# Altium schematic symbol library Processors.SchLib: 2 symbols
Pins are listed as number, name and electrical type; pins without a type are passive.

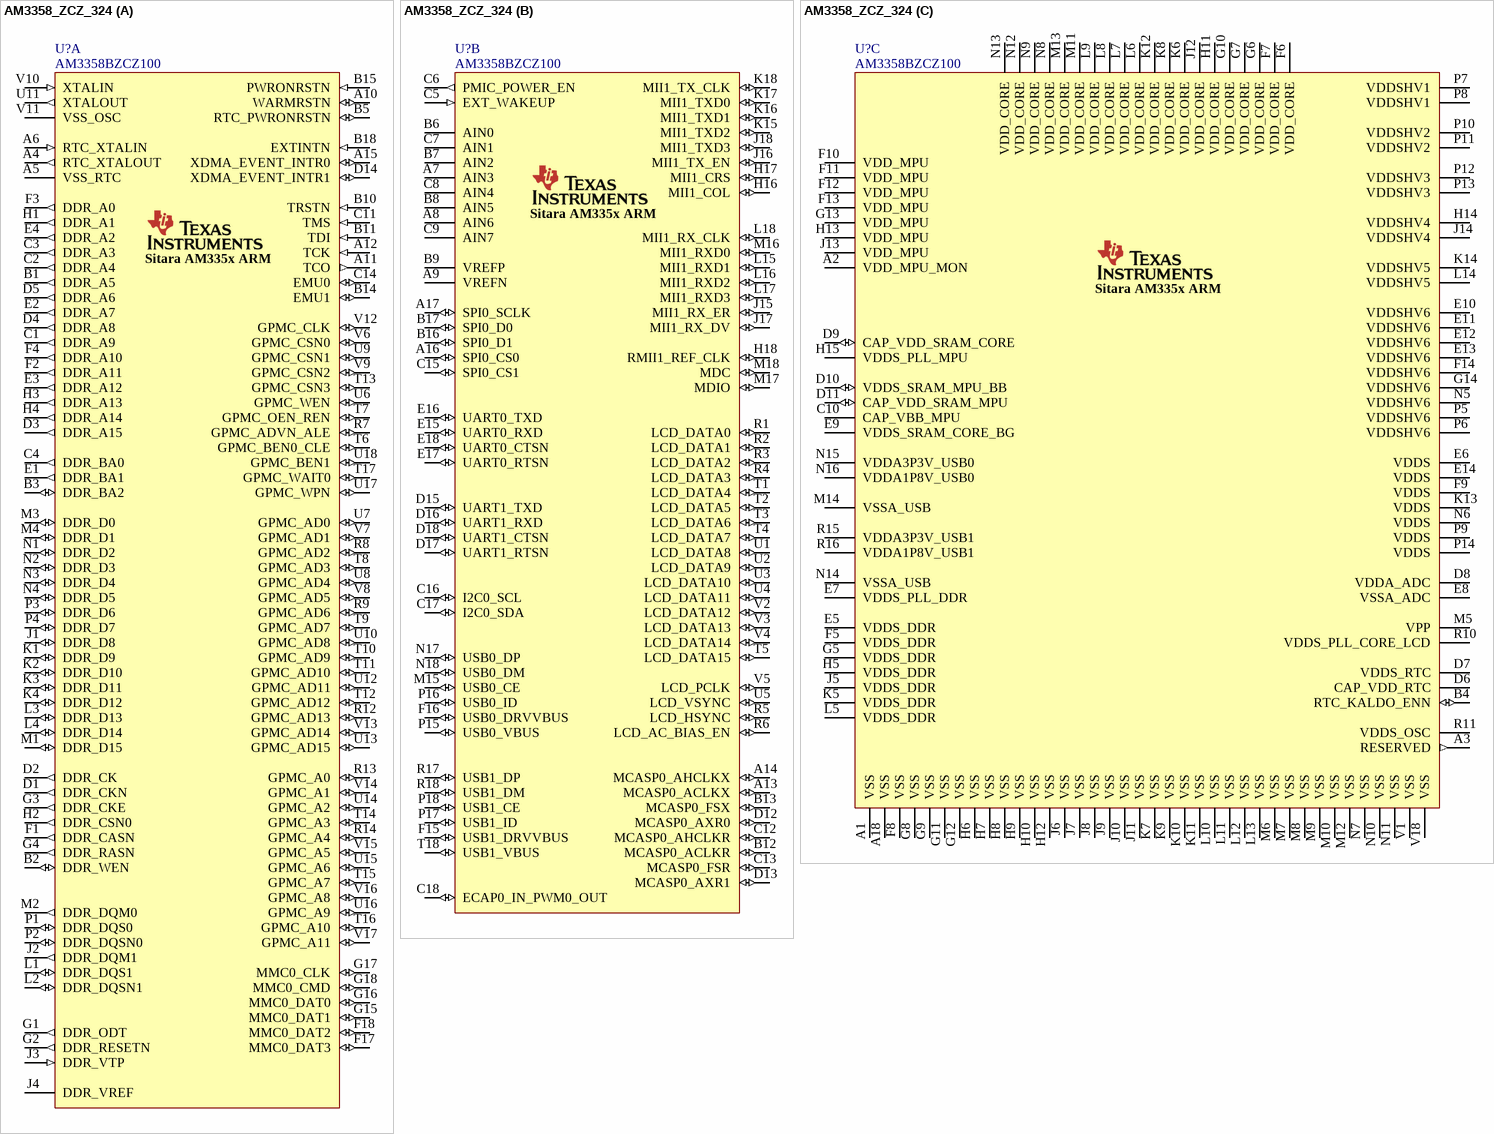
[diagram p0: symbol AM3358_ZCZ_324]

## AM3358_ZCZ_324
designator U?, comment AM3358BZCZ100
Sitara AM335x ARM Cortex-A8 1.0GHZ 324NFBGA Microprocessor; Manuf1: Texas Instruments; Manuf1Partnumber: am3358_zcz_324; Populated: Yes; Value: AM3358BZCZ100; Code_JEDEC: *; HelpURL: *; ROHS: *; LifeCycle: Checked; ClassName: *; Supplier 1: Digi-Key; Supplier Part Number 1: 296-35869-5-ND
footprint ZCZ324
part A pins: A4 RTC_XTALOUT (out), A5 VSS_RTC (power), A6 RTC_XTALIN (in), A10 WARMRSTN (io), A11 TCO (out), A12 TCK (in), A15 XDMA_EVENT_INTR0 (io), B1 DDR_A5 (out), B2 DDR_WEN (io), B3 DDR_BA2 (io), B5 RTC_PWRONRSTN (io), B10 TRSTN (in), B11 TDI (in), B14 EMU1 (io), B15 PWRONRSTN (in), B18 EXTINTN (in), C1 DDR_A9 (out), C2 DDR_A4 (out), C3 DDR_A3 (out), C4 DDR_BA0 (out), C11 TMS (in), C14 EMU0 (io), D1 DDR_CKN (out), D2 DDR_CK (out), D3 DDR_A15 (out), D4 DDR_A8 (out), D5 DDR_A6 (out), D14 XDMA_EVENT_INTR1 (io), E1 DDR_BA1 (out), E2 DDR_A7 (out), E3 DDR_A12 (out), E4 DDR_A2 (out), F1 DDR_CASN (out), F2 DDR_A11 (out), F3 DDR_A0 (out), F4 DDR_A10 (out), F17 MMC0_DAT3 (io), F18 MMC0_DAT2 (io), G1 DDR_ODT (out), G2 DDR_RESETN (out), G3 DDR_CKE (out), G4 DDR_RASN (out), G15 MMC0_DAT1 (io), G16 MMC0_DAT0 (io), G17 MMC0_CLK (io), G18 MMC0_CMD (io), H1 DDR_A1 (out), H2 DDR_CSN0 (out), H3 DDR_A13 (out), H4 DDR_A14 (out), J1 DDR_D8 (io), J2 DDR_DQM1 (out), J3 DDR_VTP (in), J4 DDR_VREF, K1 DDR_D9 (io), K2 DDR_D10 (io), K3 DDR_D11 (io), K4 DDR_D12 (io), L1 DDR_DQS1 (io), L2 DDR_DQSN1 (io), L3 DDR_D13 (io), L4 DDR_D14 (io), M1 DDR_D15 (io), M2 DDR_DQM0 (out), M3 DDR_D0 (io), M4 DDR_D1 (io), N1 DDR_D2 (io), N2 DDR_D3 (io), N3 DDR_D4 (io), N4 DDR_D5 (io), P1 DDR_DQS0 (io), P2 DDR_DQSN0 (io), P3 DDR_D6 (io), P4 DDR_D7 (io), R7 GPMC_ADVN_ALE (io), R8 GPMC_AD2 (io), R9 GPMC_AD6 (io), R12 GPMC_AD13 (io), R13 GPMC_A0 (io), R14 GPMC_A4 (io), T6 GPMC_BEN0_CLE (io), T7 GPMC_OEN_REN (io), T8 GPMC_AD3 (io), T9 GPMC_AD7 (io), T10 GPMC_AD9 (io), T11 GPMC_AD10 (io), T12 GPMC_AD12 (io), T13 GPMC_CSN3 (io), T14 GPMC_A3 (io), T15 GPMC_A7 (io), T16 GPMC_A10 (io), T17 GPMC_WAIT0 (io), U6 GPMC_WEN (io), U7 GPMC_AD0 (io), U8 GPMC_AD4 (io), U9 GPMC_CSN1 (io), U10 GPMC_AD8 (io), U11 XTALOUT (out), U12 GPMC_AD11 (io), U13 GPMC_AD15 (io), U14 GPMC_A2 (io), U15 GPMC_A6 (io), U16 GPMC_A9 (io), U17 GPMC_WPN (io), U18 GPMC_BEN1 (io), V6 GPMC_CSN0 (io), V7 GPMC_AD1 (io), V8 GPMC_AD5 (io), V9 GPMC_CSN2 (io), V10 XTALIN (in), V11 VSS_OSC (power), V12 GPMC_CLK (io), V13 GPMC_AD14 (io), V14 GPMC_A1 (io), V15 GPMC_A5 (io), V16 GPMC_A8 (io), V17 GPMC_A11 (io)
part B pins: A7 AIN3, A8 AIN6, A9 VREFN (power), A13 MCASP0_ACLKX (io), A14 MCASP0_AHCLKX (io), A16 SPI0_CS0 (io), A17 SPI0_SCLK (io), B6 AIN0, B7 AIN2, B8 AIN5, B9 VREFP (power), B12 MCASP0_ACLKR (io), B13 MCASP0_FSX (io), B16 SPI0_D1 (io), B17 SPI0_D0 (io), C5 EXT_WAKEUP (in), C6 PMIC_POWER_EN (out), C7 AIN1, C8 AIN4, C9 AIN7, C12 MCASP0_AHCLKR (io), C13 MCASP0_FSR (io), C15 SPI0_CS1 (io), C16 I2C0_SCL (io), C17 I2C0_SDA (io), C18 ECAP0_IN_PWM0_OUT (io), D12 MCASP0_AXR0 (io), D13 MCASP0_AXR1 (io), D15 UART1_TXD (io), D16 UART1_RXD (io), D17 UART1_RTSN (io), D18 UART1_CTSN (io), E15 UART0_RXD (io), E16 UART0_TXD (io), E17 UART0_RTSN (io), E18 UART0_CTSN (io), F15 USB1_DRVVBUS (io), F16 USB0_DRVVBUS (io), H16 MII1_COL (io), H17 MII1_CRS (io), H18 RMII1_REF_CLK (io), J15 MII1_RX_ER (io), J16 MII1_TX_EN (io), J17 MII1_RX_DV (io), J18 MII1_TXD3 (io), K15 MII1_TXD2 (io), K16 MII1_TXD1 (io), K17 MII1_TXD0 (io), K18 MII1_TX_CLK (io), L15 MII1_RXD1 (io), L16 MII1_RXD2 (io), L17 MII1_RXD3 (io), L18 MII1_RX_CLK (io), M15 USB0_CE (io), M16 MII1_RXD0 (io), M17 MDIO (io), M18 MDC (io), N17 USB0_DP (io), N18 USB0_DM (io), P15 USB0_VBUS (io), P16 USB0_ID (io), P17 USB1_ID (io), P18 USB1_CE (io), R1 LCD_DATA0 (io), R2 LCD_DATA1 (io), R3 LCD_DATA2 (io), R4 LCD_DATA3 (io), R5 LCD_HSYNC (io), R6 LCD_AC_BIAS_EN (io), R17 USB1_DP (io), R18 USB1_DM (io), T1 LCD_DATA4 (io), T2 LCD_DATA5 (io), T3 LCD_DATA6 (io), T4 LCD_DATA7 (io), T5 LCD_DATA15 (io), T18 USB1_VBUS (io), U1 LCD_DATA8 (io), U2 LCD_DATA9 (io), U3 LCD_DATA10 (io), U4 LCD_DATA11 (io), U5 LCD_VSYNC (io), V2 LCD_DATA12 (io), V3 LCD_DATA13 (io), V4 LCD_DATA14 (io), V5 LCD_PCLK (io)
part C pins: A1 VSS (power), A2 VDD_MPU_MON (power), A3 RESERVED (out), A18 VSS (power), B4 RTC_KALDO_ENN (io), C10 CAP_VBB_MPU, D6 CAP_VDD_RTC, D7 VDDS_RTC (power), D8 VDDA_ADC (power), D9 CAP_VDD_SRAM_CORE (io), D10 VDDS_SRAM_MPU_BB (io), D11 CAP_VDD_SRAM_MPU (io), E5 VDDS_DDR (power), E6 VDDS (power), E7 VDDS_PLL_DDR (power), E8 VSSA_ADC (power), E9 VDDS_SRAM_CORE_BG (power), E10 VDDSHV6 (power), E11 VDDSHV6 (power), E12 VDDSHV6 (power), E13 VDDSHV6 (power), E14 VDDS (power), F5 VDDS_DDR (power), F6 VDD_CORE (power), F7 VDD_CORE (power), F8 VSS (power), F9 VDDS (power), F10 VDD_MPU (power), F11 VDD_MPU (power), F12 VDD_MPU (power), F13 VDD_MPU (power), F14 VDDSHV6 (power), G5 VDDS_DDR (power), G6 VDD_CORE (power), G7 VDD_CORE (power), G8 VSS (power), G9 VSS (power), G10 VDD_CORE (power), G11 VSS (power), G12 VSS (power), G13 VDD_MPU (power), G14 VDDSHV6 (power), H5 VDDS_DDR (power), H6 VSS (power), H7 VSS (power), H8 VSS (power), H9 VSS (power), H10 VSS (power), H11 VDD_CORE (power), H12 VSS (power), H13 VDD_MPU (power), H14 VDDSHV4 (power), H15 VDDS_PLL_MPU (power), J5 VDDS_DDR (power), J6 VSS (power), J7 VSS (power), J8 VSS (power), J9 VSS (power), J10 VSS (power), J11 VSS (power), J12 VDD_CORE (power), J13 VDD_MPU (power), J14 VDDSHV4 (power), K5 VDDS_DDR (power), K6 VDD_CORE (power), K7 VSS (power), K8 VDD_CORE (power), K9 VSS (power), K10 VSS (power), K11 VSS (power), K12 VDD_CORE (power), K13 VDDS (power), K14 VDDSHV5 (power), L5 VDDS_DDR (power), L6 VDD_CORE (power), L7 VDD_CORE (power), L8 VDD_CORE (power), L9 VDD_CORE (power), L10 VSS (power), L11 VSS (power), L12 VSS (power), L13 VSS (power), L14 VDDSHV5 (power), M5 VPP (power), M6 VSS (power), M7 VSS (power), M8 VSS (power), M9 VSS (power), M10 VSS (power), M11 VDD_CORE (power), M12 VSS (power), M13 VDD_CORE (power), M14 VSSA_USB (power), N5 VDDSHV6 (power), N6 VDDS (power), N7 VSS (power), N8 VDD_CORE (power), N9 VDD_CORE (power), N10 VSS (power), N11 VSS (power), N12 VDD_CORE (power), N13 VDD_CORE (power), N14 VSSA_USB (power), N15 VDDA3P3V_USB0 (power), N16 VDDA1P8V_USB0 (power), P5 VDDSHV6 (power), P6 VDDSHV6 (power), P7 VDDSHV1 (power), P8 VDDSHV1 (power), P9 VDDS (power), P10 VDDSHV2 (power), P11 VDDSHV2 (power), P12 VDDSHV3 (power), P13 VDDSHV3 (power), P14 VDDS (power), R10 VDDS_PLL_CORE_LCD (power), R11 VDDS_OSC (power), R15 VDDA3P3V_USB1 (power), R16 VDDA1P8V_USB1 (power), V1 VSS (power), V18 VSS (power)
part A text: Sitara AM335x ARM
part B text: Sitara AM335x ARM
part C text: Sitara AM335x ARM

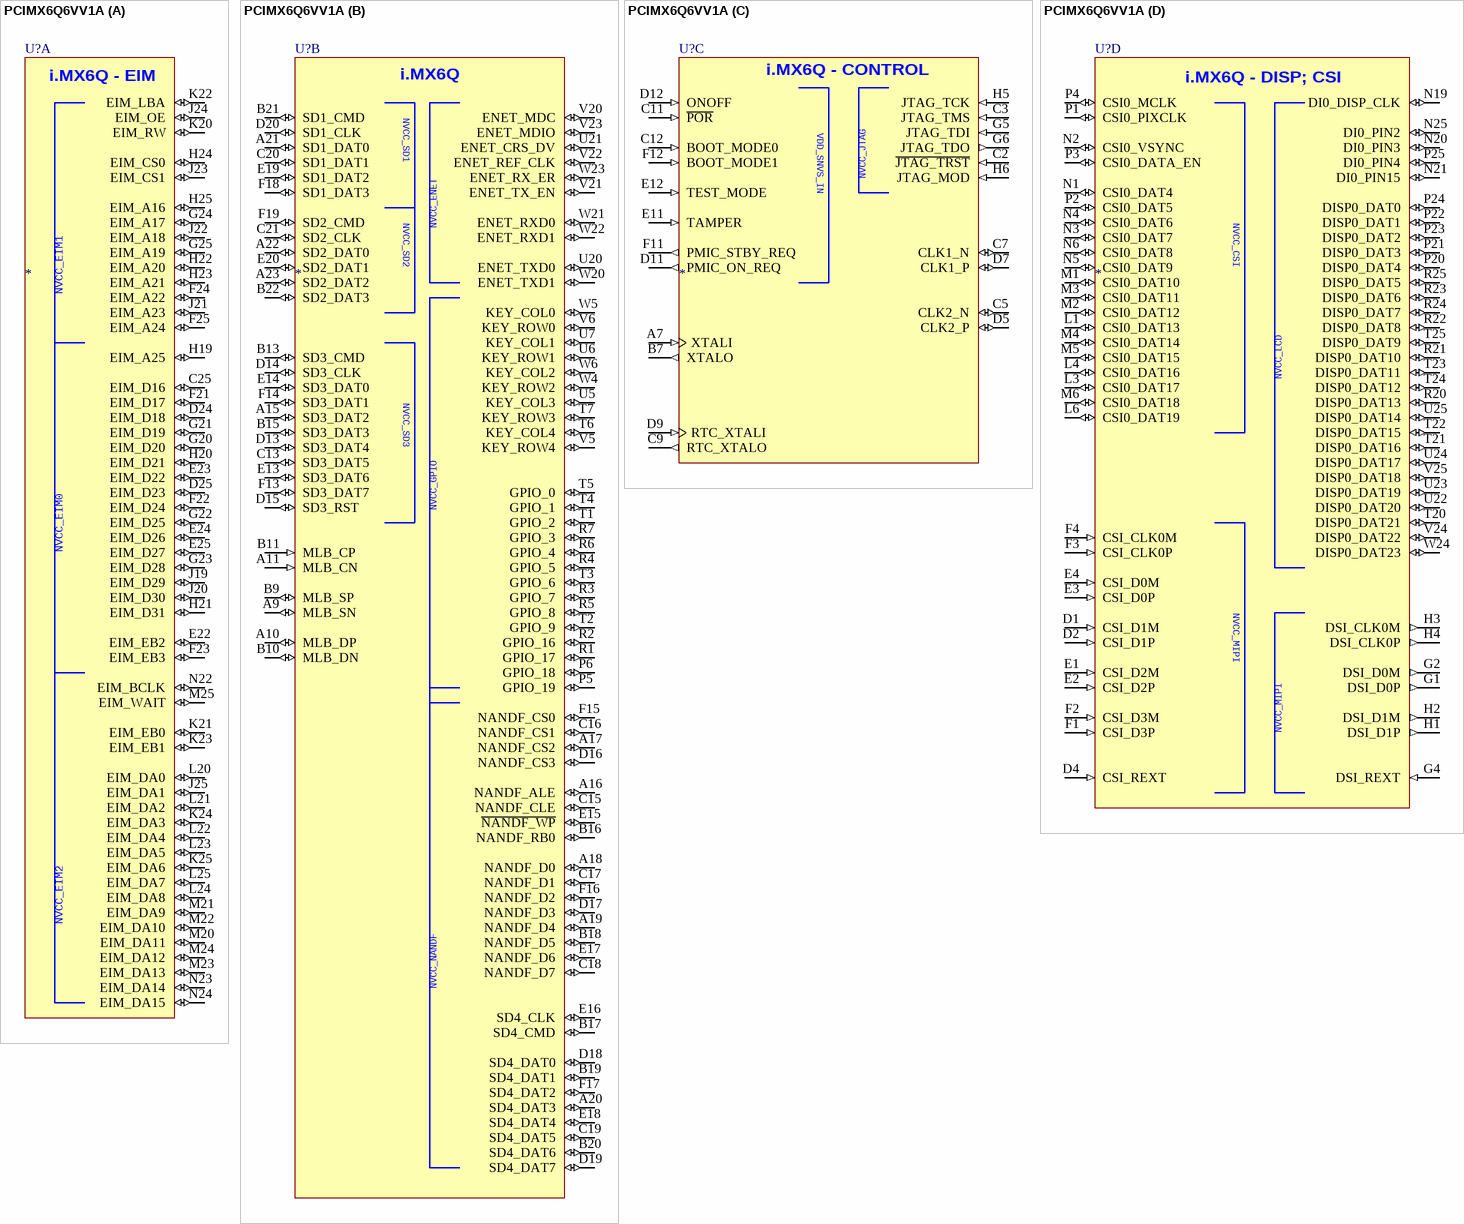
[diagram p1: symbol PCIMX6Q6VV1A]

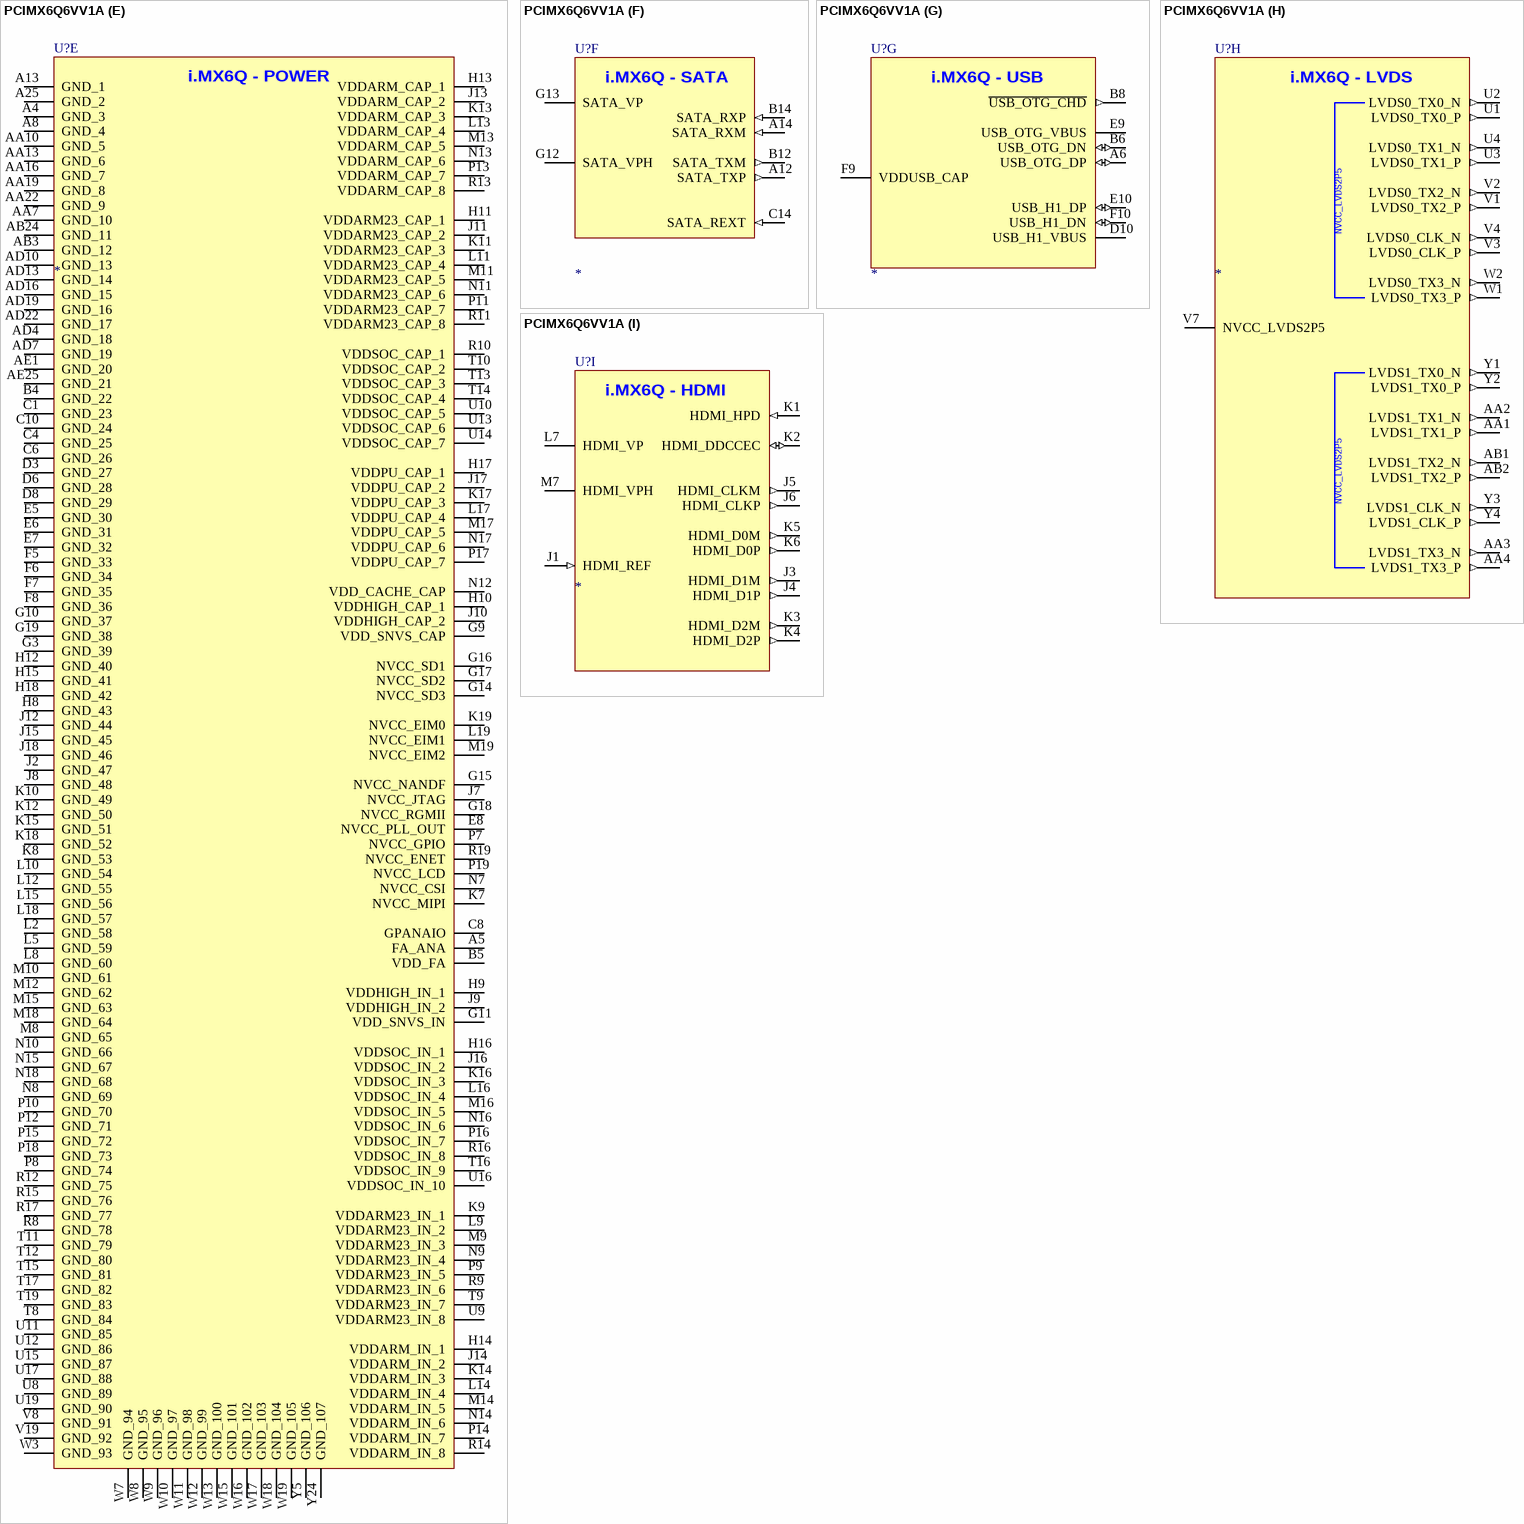
[diagram p2: symbol PCIMX6Q6VV1A]

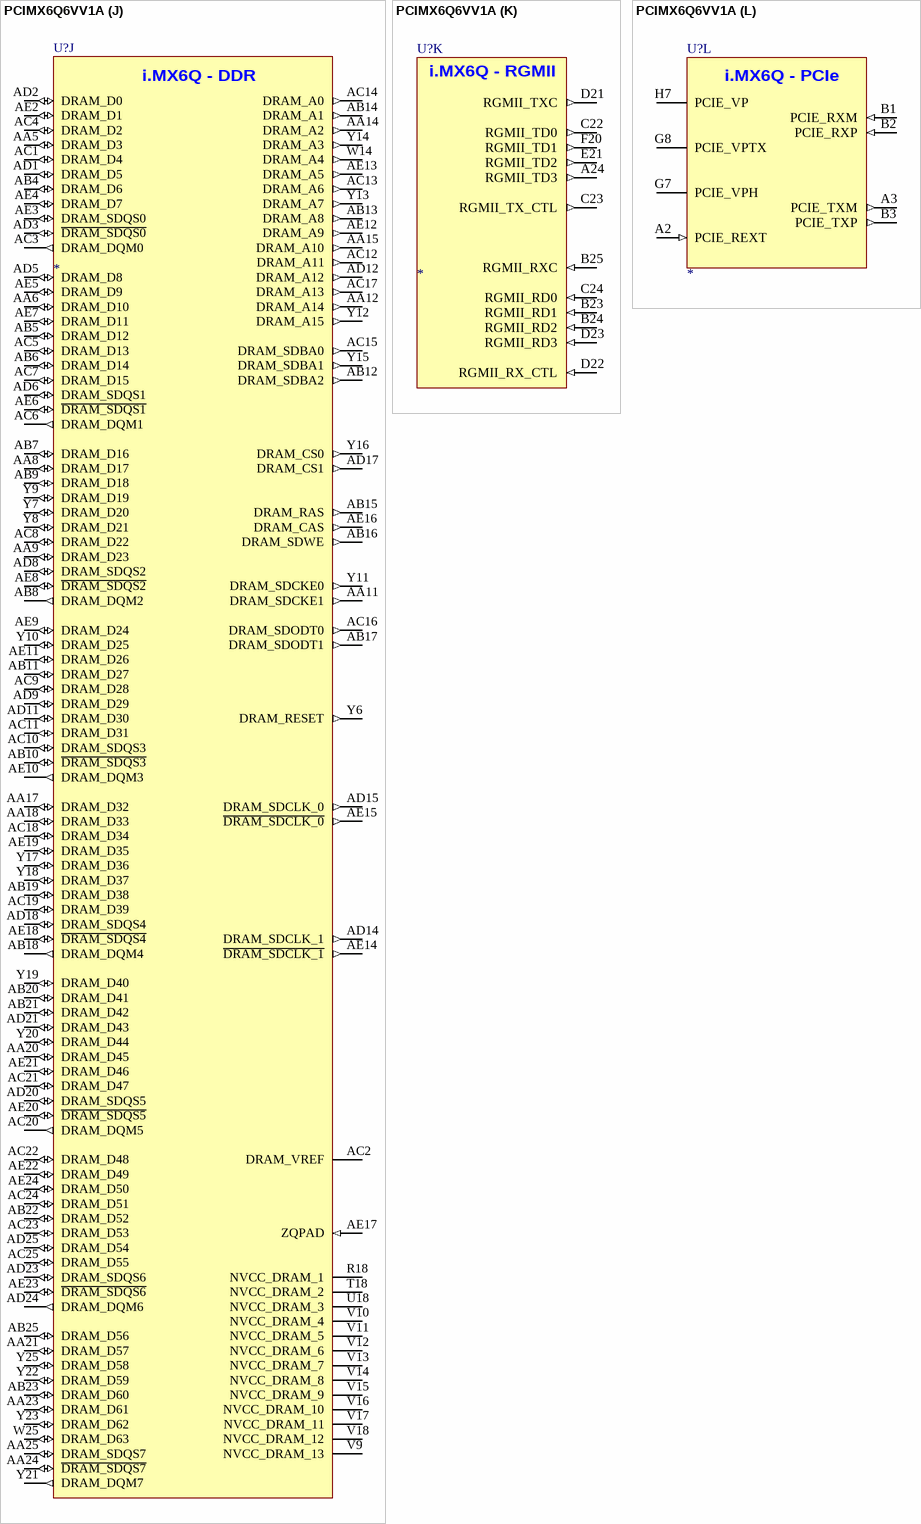
[diagram p3: symbol PCIMX6Q6VV1A]

## PCIMX6Q6VV1A
designator U?
Manufacturer: Freescale; Manufacturer part number: MCIMX6D7CVT08AC; CLASS: IC
footprint BGA625x25
part A pins: C25 EIM_D16 (io), D24 EIM_D18 (io), D25 EIM_D23 (io), E22 EIM_EB2 (io), E23 EIM_D22 (io), E24 EIM_D26 (io), E25 EIM_D27 (io), F21 EIM_D17 (io), F22 EIM_D24 (io), F23 EIM_EB3 (io), F24 EIM_A22 (io), F25 EIM_A24 (io), G20 EIM_D20 (io), G21 EIM_D19 (io), G22 EIM_D25 (io), G23 EIM_D28 (io), G24 EIM_A17 (io), G25 EIM_A19 (io), H19 EIM_A25 (io), H20 EIM_D21 (io), H21 EIM_D31 (io), H22 EIM_A20 (io), H23 EIM_A21 (io), H24 EIM_CS0 (io), H25 EIM_A16 (io), J19 EIM_D29 (io), J20 EIM_D30 (io), J21 EIM_A23 (io), J22 EIM_A18 (io), J23 EIM_CS1 (io), J24 EIM_OE (io), J25 EIM_DA1 (io), K20 EIM_RW (io), K21 EIM_EB0 (io), K22 EIM_LBA (io), K23 EIM_EB1 (io), K24 EIM_DA3 (io), K25 EIM_DA6 (io), L20 EIM_DA0 (io), L21 EIM_DA2 (io), L22 EIM_DA4 (io), L23 EIM_DA5 (io), L24 EIM_DA8 (io), L25 EIM_DA7 (io), M20 EIM_DA11 (io), M21 EIM_DA9 (io), M22 EIM_DA10 (io), M23 EIM_DA13 (io), M24 EIM_DA12 (io), M25 EIM_WAIT (io), N22 EIM_BCLK (io), N23 EIM_DA14 (io), N24 EIM_DA15 (io)
part B pins: A9 MLB_SN (io), A10 MLB_DP (io), A11 MLB_CN (in), A15 SD3_DAT2 (io), A16 NANDF_ALE (io), A17 NANDF_CS2 (io), A18 NANDF_D0 (io), A19 NANDF_D4 (io), A20 SD4_DAT3 (io), A21 SD1_DAT0 (io), A22 SD2_DAT0 (io), A23 SD2_DAT2 (io), B9 MLB_SP (io), B10 MLB_DN (io), B11 MLB_CP (in), B13 SD3_CMD (io), B15 SD3_DAT3 (io), B16 NANDF_RB0 (io), B17 SD4_CMD (io), B18 NANDF_D5 (io), B19 SD4_DAT1 (io), B20 SD4_DAT6 (io), B21 SD1_CMD (io), B22 SD2_DAT3 (io), C13 SD3_DAT5 (io), C15 NANDF_CLE (io), C16 NANDF_CS1 (io), C17 NANDF_D1 (io), C18 NANDF_D7 (io), C19 SD4_DAT5 (io), C20 SD1_DAT1 (io), C21 SD2_CLK (io), D13 SD3_DAT4 (io), D14 SD3_CLK (io), D15 SD3_RST (io), D16 NANDF_CS3 (io), D17 NANDF_D3 (io), D18 SD4_DAT0 (io), D19 SD4_DAT7 (io), D20 SD1_CLK (io), E13 SD3_DAT6 (io), E14 SD3_DAT0 (io), E15 ~{NANDF_WP} (io), E16 SD4_CLK (io), E17 NANDF_D6 (io), E18 SD4_DAT4 (io), E19 SD1_DAT2 (io), E20 SD2_DAT1 (io), F13 SD3_DAT7 (io), F14 SD3_DAT1 (io), F15 NANDF_CS0 (io), F16 NANDF_D2 (io), F17 SD4_DAT2 (io), F18 SD1_DAT3 (io), F19 SD2_CMD (io), P5 GPIO_19 (io), P6 GPIO_18 (io), R1 GPIO_17 (io), R2 GPIO_16 (io), R3 GPIO_7 (io), R4 GPIO_5 (io), R5 GPIO_8 (io), R6 GPIO_4 (io), R7 GPIO_3 (io), T1 GPIO_2 (io), T2 GPIO_9 (io), T3 GPIO_6 (io), T4 GPIO_1 (io), T5 GPIO_0 (io), T6 KEY_COL4 (io), T7 KEY_ROW3 (io), U5 KEY_COL3 (io), U6 KEY_ROW1 (io), U7 KEY_COL1 (io), U20 ENET_TXD0 (io), U21 ENET_CRS_DV (io), V5 KEY_ROW4 (io), V6 KEY_ROW0 (io), V20 ENET_MDC (io), V21 ENET_TX_EN (io), V22 ENET_REF_CLK (io), V23 ENET_MDIO (io), W4 KEY_ROW2 (io), W5 KEY_COL0 (io), W6 KEY_COL2 (io), W20 ENET_TXD1 (io), W21 ENET_RXD0 (io), W22 ENET_RXD1 (io), W23 ENET_RX_ER (io)
part C pins: A7 XTALI (in), B7 XTALO (out), C2 ~{JTAG_TRST} (in), C3 JTAG_TMS (in), C5 CLK2_N (io), C7 CLK1_N (io), C9 RTC_XTALO (out), C11 ~{POR} (in), C12 BOOT_MODE0 (in), D5 CLK2_P (io), D7 CLK1_P (io), D9 RTC_XTALI (in), D11 PMIC_ON_REQ (out), D12 ONOFF (in), E11 TAMPER (in), E12 TEST_MODE (in), F11 PMIC_STBY_REQ (out), F12 BOOT_MODE1 (in), G5 JTAG_TDI (in), G6 JTAG_TDO (out), H5 JTAG_TCK (in), H6 JTAG_MOD (in)
part D pins: D1 CSI_D1M (in), D2 CSI_D1P (in), D4 CSI_REXT (in), E1 CSI_D2M (in), E2 CSI_D2P (in), E3 CSI_D0P (in), E4 CSI_D0M (in), F1 CSI_D3P (in), F2 CSI_D3M (in), F3 CSI_CLK0P (in), F4 CSI_CLK0M (in), G1 DSI_D0P (out), G2 DSI_D0M (out), G4 DSI_REXT (in), H1 DSI_D1P (out), H2 DSI_D1M (out), H3 DSI_CLK0M (out), H4 DSI_CLK0P (out), L1 CSI0_DAT13 (io), L3 CSI0_DAT17 (io), L4 CSI0_DAT16 (io), L6 CSI0_DAT19 (io), M1 CSI0_DAT10 (io), M2 CSI0_DAT12 (io), M3 CSI0_DAT11 (io), M4 CSI0_DAT14 (io), M5 CSI0_DAT15 (io), M6 CSI0_DAT18 (io), N1 CSI0_DAT4 (io), N2 CSI0_VSYNC (io), N3 CSI0_DAT7 (io), N4 CSI0_DAT6 (io), N5 CSI0_DAT9 (io), N6 CSI0_DAT8 (io), N19 DI0_DISP_CLK (io), N20 DI0_PIN3 (io), N21 DI0_PIN15 (io), N25 DI0_PIN2 (io), P1 CSI0_PIXCLK (io), P2 CSI0_DAT5 (io), P3 CSI0_DATA_EN (io), P4 CSI0_MCLK (io), P20 DISP0_DAT4 (io), P21 DISP0_DAT3 (io), P22 DISP0_DAT1 (io), P23 DISP0_DAT2 (io), P24 DISP0_DAT0 (io), P25 DI0_PIN4 (io), R20 DISP0_DAT13 (io), R21 DISP0_DAT10 (io), R22 DISP0_DAT8 (io), R23 DISP0_DAT6 (io), R24 DISP0_DAT7 (io), R25 DISP0_DAT5 (io), T20 DISP0_DAT21 (io), T21 DISP0_DAT16 (io), T22 DISP0_DAT15 (io), T23 DISP0_DAT11 (io), T24 DISP0_DAT12 (io), T25 DISP0_DAT9 (io), U22 DISP0_DAT20 (io), U23 DISP0_DAT19 (io), U24 DISP0_DAT17 (io), U25 DISP0_DAT14 (io), V24 DISP0_DAT22 (io), V25 DISP0_DAT18 (io), W24 DISP0_DAT23 (io)
part E pins: A4 GND_3 (power), A5 FA_ANA (power), A8 GND_4 (power), A13 GND_1 (power), A25 GND_2 (power), AA7 GND_10 (power), AA10 GND_5 (power), AA13 GND_6 (power), AA16 GND_7 (power), AA19 GND_8 (power), AA22 GND_9 (power), AB3 GND_12 (power), AB24 GND_11 (power), AD4 GND_18 (power), AD7 GND_19 (power), AD10 GND_13 (power), AD13 GND_14 (power), AD16 GND_15 (power), AD19 GND_16 (power), AD22 GND_17 (power), AE1 GND_20 (power), AE25 GND_21 (power), B4 GND_22 (power), B5 VDD_FA (power), C1 GND_23 (power), C4 GND_25 (power), C6 GND_26 (power), C8 GPANAIO (power), C10 GND_24 (power), D3 GND_27 (power), D6 GND_28 (power), D8 GND_29 (power), E5 GND_30 (power), E6 GND_31 (power), E7 GND_32 (power), E8 NVCC_PLL_OUT (power), F5 GND_33 (power), F6 GND_34 (power), F7 GND_35 (power), F8 GND_36 (power), G3 GND_39 (power), G9 VDD_SNVS_CAP (power), G10 GND_37 (power), G11 VDD_SNVS_IN (power), G14 NVCC_SD3 (power), G15 NVCC_NANDF (power), G16 NVCC_SD1 (power), G17 NVCC_SD2 (power), G18 NVCC_RGMII (power), G19 GND_38 (power), H8 GND_43 (power), H9 VDDHIGH_IN_1 (power), H10 VDDHIGH_CAP_1 (power), H11 VDDARM23_CAP_1 (power), H12 GND_40 (power), H13 VDDARM_CAP_1 (power), H14 VDDARM_IN_1 (power), H15 GND_41 (power), H16 VDDSOC_IN_1 (power), H17 VDDPU_CAP_1 (power), H18 GND_42 (power), J2 GND_47 (power), J7 NVCC_JTAG (power), J8 GND_48 (power), J9 VDDHIGH_IN_2 (power), J10 VDDHIGH_CAP_2 (power), J11 VDDARM23_CAP_2 (power), J12 GND_44 (power), J13 VDDARM_CAP_2 (power), J14 VDDARM_IN_2 (power), J15 GND_45 (power), J16 VDDSOC_IN_2 (power), J17 VDDPU_CAP_2 (power), J18 GND_46 (power), K7 NVCC_MIPI (power), K8 GND_53 (power), K9 VDDARM23_IN_1 (power), K10 GND_49 (power), K11 VDDARM23_CAP_3 (power), K12 GND_50 (power), K13 VDDARM_CAP_3 (power), K14 VDDARM_IN_3 (power), K15 GND_51 (power), K16 VDDSOC_IN_3 (power), K17 VDDPU_CAP_3 (power), K18 GND_52 (power), K19 NVCC_EIM0 (power), L2 GND_58 (power), L5 GND_59 (power), L8 GND_60 (power), L9 VDDARM23_IN_2 (power), L10 GND_54 (power), L11 VDDARM23_CAP_4 (power), L12 GND_55 (power), L13 VDDARM_CAP_4 (power), L14 VDDARM_IN_4 (power), L15 GND_56 (power), L16 VDDSOC_IN_4 (power), L17 VDDPU_CAP_4 (power), L18 GND_57 (power), L19 NVCC_EIM1 (power), M8 GND_65 (power), M9 VDDARM23_IN_3 (power), M10 GND_61 (power), M11 VDDARM23_CAP_5 (power), M12 GND_62 (power), M13 VDDARM_CAP_5 (power), M14 VDDARM_IN_5 (power), M15 GND_63 (power), M16 VDDSOC_IN_5 (power), M17 VDDPU_CAP_5 (power), M18 GND_64 (power), M19 NVCC_EIM2 (power), N7 NVCC_CSI (power), N8 GND_69 (power), N9 VDDARM23_IN_4 (power), N10 GND_66 (power), N11 VDDARM23_CAP_6 (power), N12 VDD_CACHE_CAP (power), N13 VDDARM_CAP_6 (power), N14 VDDARM_IN_6 (power), N15 GND_67 (power), N16 VDDSOC_IN_6 (power), N17 VDDPU_CAP_6 (power), N18 GND_68 (power), P7 NVCC_GPIO (power), P8 GND_74 (power), P9 VDDARM23_IN_5 (power), P10 GND_70 (power), P11 VDDARM23_CAP_7 (power), P12 GND_71 (power), P13 VDDARM_CAP_7 (power), P14 VDDARM_IN_7 (power), P15 GND_72 (power), P16 VDDSOC_IN_7 (power), P17 VDDPU_CAP_7 (power), P18 GND_73 (power), P19 NVCC_LCD (power), R8 GND_78 (power), R9 VDDARM23_IN_6 (power), R10 VDDSOC_CAP_1 (power), R11 VDDARM23_CAP_8 (power), R12 GND_75 (power), R13 VDDARM_CAP_8 (power), R14 VDDARM_IN_8 (power), R15 GND_76 (power), R16 VDDSOC_IN_8 (power), R17 GND_77 (power), R19 NVCC_ENET (power), T8 GND_84 (power), T9 VDDARM23_IN_7 (power), T10 VDDSOC_CAP_2 (power), T11 GND_79 (power), T12 GND_80 (power), T13 VDDSOC_CAP_3 (power), T14 VDDSOC_CAP_4 (power), T15 GND_81 (power), T16 VDDSOC_IN_9 (power), T17 GND_82 (power), T19 GND_83 (power), U8 GND_89 (power), U9 VDDARM23_IN_8 (power), U10 VDDSOC_CAP_5 (power), U11 GND_85 (power), U12 GND_86 (power), U13 VDDSOC_CAP_6 (power), U14 VDDSOC_CAP_7 (power), U15 GND_87 (power), U16 VDDSOC_IN_10 (power), U17 GND_88 (power), U19 GND_90 (power), V8 GND_91 (power), V19 GND_92 (power), W3 GND_93 (power), W7 GND_94 (power), W8 GND_95 (power), W9 GND_96 (power), W10 GND_97 (power), W11 GND_98 (power), W12 GND_99 (power), W13 GND_100 (power), W15 GND_101 (power), W16 GND_102 (power), W17 GND_103 (power), W18 GND_104 (power), W19 GND_105 (power), Y5 GND_106 (power), Y24 GND_107 (power)
part F pins: A12 SATA_TXP (out), A14 SATA_RXM (in), B12 SATA_TXM (out), B14 SATA_RXP (in), C14 SATA_REXT (in), G12 SATA_VPH (power), G13 SATA_VP (power)
part G pins: A6 USB_OTG_DP (io), B6 USB_OTG_DN (io), B8 ~{USB_OTG_CHD} (out), D10 USB_H1_VBUS (power), E9 USB_OTG_VBUS (power), E10 USB_H1_DP (io), F9 VDDUSB_CAP (power), F10 USB_H1_DN (io)
part H pins: AA1 LVDS1_TX1_P (out), AA2 LVDS1_TX1_N (out), AA3 LVDS1_TX3_N (out), AA4 LVDS1_TX3_P (out), AB1 LVDS1_TX2_N (out), AB2 LVDS1_TX2_P (out), U1 LVDS0_TX0_P (out), U2 LVDS0_TX0_N (out), U3 LVDS0_TX1_P (out), U4 LVDS0_TX1_N (out), V1 LVDS0_TX2_P (out), V2 LVDS0_TX2_N (out), V3 LVDS0_CLK_P (out), V4 LVDS0_CLK_N (out), V7 NVCC_LVDS2P5 (power), W1 LVDS0_TX3_P (out), W2 LVDS0_TX3_N (out), Y1 LVDS1_TX0_N (out), Y2 LVDS1_TX0_P (out), Y3 LVDS1_CLK_N (out), Y4 LVDS1_CLK_P (out)
part I pins: J1 HDMI_REF (in), J3 HDMI_D1M (out), J4 HDMI_D1P (out), J5 HDMI_CLKM (out), J6 HDMI_CLKP (out), K1 HDMI_HPD (in), K2 HDMI_DDCCEC (io), K3 HDMI_D2M (out), K4 HDMI_D2P (out), K5 HDMI_D0M (out), K6 HDMI_D0P (out), L7 HDMI_VP (power), M7 HDMI_VPH (power)
part J pins: AA5 DRAM_D3 (io), AA6 DRAM_D10 (io), AA8 DRAM_D17 (io), AA9 DRAM_D23 (io), AA11 DRAM_SDCKE1 (out), AA12 DRAM_A14 (out), AA14 DRAM_A2 (out), AA15 DRAM_A10 (out), AA17 DRAM_D32 (io), AA18 DRAM_D33 (io), AA20 DRAM_D45 (io), AA21 DRAM_D57 (io), AA23 DRAM_D61 (io), AA24 ~{DRAM_SDQS7} (io), AA25 DRAM_SDQS7 (io), AB4 DRAM_D6 (io), AB5 DRAM_D12 (io), AB6 DRAM_D14 (io), AB7 DRAM_D16 (io), AB8 DRAM_DQM2 (out), AB9 DRAM_D18 (io), AB10 ~{DRAM_SDQS3} (io), AB11 DRAM_D27 (io), AB12 DRAM_SDBA2 (out), AB13 DRAM_A8 (out), AB14 DRAM_A1 (out), AB15 DRAM_RAS (out), AB16 DRAM_SDWE (out), AB17 DRAM_SDODT1 (out), AB18 DRAM_DQM4 (out), AB19 DRAM_D38 (io), AB20 DRAM_D41 (io), AB21 DRAM_D42 (io), AB22 DRAM_D52 (io), AB23 DRAM_D60 (io), AB25 DRAM_D56 (io), AC1 DRAM_D4 (io), AC2 DRAM_VREF (power), AC3 DRAM_DQM0 (out), AC4 DRAM_D2 (io), AC5 DRAM_D13 (io), AC6 DRAM_DQM1 (out), AC7 DRAM_D15 (io), AC8 DRAM_D22 (io), AC9 DRAM_D28 (io), AC10 DRAM_SDQS3 (io), AC11 DRAM_D31 (io), AC12 DRAM_A11 (out), AC13 DRAM_A6 (out), AC14 DRAM_A0 (out), AC15 DRAM_SDBA0 (out), AC16 DRAM_SDODT0 (out), AC17 DRAM_A13 (out), AC18 DRAM_D34 (io), AC19 DRAM_D39 (io), AC20 DRAM_DQM5 (out), AC21 DRAM_D47 (io), AC22 DRAM_D48 (io), AC23 DRAM_D53 (io), AC24 DRAM_D51 (io), AC25 DRAM_D55 (io), AD1 DRAM_D5 (io), AD2 DRAM_D0 (io), AD3 ~{DRAM_SDQS0} (io), AD5 DRAM_D8 (io), AD6 DRAM_SDQS1 (io), AD8 DRAM_SDQS2 (io), AD9 DRAM_D29 (io), AD11 DRAM_D30 (io), AD12 DRAM_A12 (out), AD14 DRAM_SDCLK_1 (out), AD15 DRAM_SDCLK_0 (out), AD17 DRAM_CS1 (out), AD18 DRAM_SDQS4 (io), AD20 DRAM_SDQS5 (io), AD21 DRAM_D43 (io), AD23 DRAM_SDQS6 (io), AD24 DRAM_DQM6 (out), AD25 DRAM_D54 (io), AE2 DRAM_D1 (io), AE3 DRAM_SDQS0 (io), AE4 DRAM_D7 (io), AE5 DRAM_D9 (io), AE6 ~{DRAM_SDQS1} (io), AE7 DRAM_D11 (io), AE8 ~{DRAM_SDQS2} (io), AE9 DRAM_D24 (io), AE10 DRAM_DQM3 (out), AE11 DRAM_D26 (io), AE12 DRAM_A9 (out), AE13 DRAM_A5 (out), AE14 ~{DRAM_SDCLK_1} (out), AE15 ~{DRAM_SDCLK_0} (out), AE16 DRAM_CAS (out), AE17 ZQPAD (in), AE18 ~{DRAM_SDQS4} (io), AE19 DRAM_D35 (io), AE20 ~{DRAM_SDQS5} (io), AE21 DRAM_D46 (io), AE22 DRAM_D49 (io), AE23 ~{DRAM_SDQS6} (io), AE24 DRAM_D50 (io), R18 NVCC_DRAM_1 (power), T18 NVCC_DRAM_2 (power), U18 NVCC_DRAM_3 (power), V9 NVCC_DRAM_13 (power), V10 NVCC_DRAM_4 (power), V11 NVCC_DRAM_5 (power), V12 NVCC_DRAM_6 (power), V13 NVCC_DRAM_7 (power), V14 NVCC_DRAM_8 (power), V15 NVCC_DRAM_9 (power), V16 NVCC_DRAM_10 (power), V17 NVCC_DRAM_11 (power), V18 NVCC_DRAM_12 (power), W14 DRAM_A4 (out), W25 DRAM_D63 (io), Y6 DRAM_RESET (out), Y7 DRAM_D20 (io), Y8 DRAM_D21 (io), Y9 DRAM_D19 (io), Y10 DRAM_D25 (io), Y11 DRAM_SDCKE0 (out), Y12 DRAM_A15 (out), Y13 DRAM_A7 (out), Y14 DRAM_A3 (out), Y15 DRAM_SDBA1 (out), Y16 DRAM_CS0 (out), Y17 DRAM_D36 (io), Y18 DRAM_D37 (io), Y19 DRAM_D40 (io), Y20 DRAM_D44 (io), Y21 DRAM_DQM7 (out), Y22 DRAM_D59 (io), Y23 DRAM_D62 (io), Y25 DRAM_D58 (io)
part K pins: A24 RGMII_TD3 (out), B23 RGMII_RD1 (in), B24 RGMII_RD2 (in), B25 RGMII_RXC (in), C22 RGMII_TD0 (out), C23 RGMII_TX_CTL (out), C24 RGMII_RD0 (in), D21 RGMII_TXC (out), D22 RGMII_RX_CTL (in), D23 RGMII_RD3 (in), E21 RGMII_TD2 (out), F20 RGMII_TD1 (out)
part L pins: A2 PCIE_REXT (in), A3 PCIE_TXM (out), B1 PCIE_RXM (in), B2 PCIE_RXP (in), B3 PCIE_TXP (out), G7 PCIE_VPH (power), G8 PCIE_VPTX (power), H7 PCIE_VP (power)
part A text: i.MX6Q - EIM
part B text: i.MX6Q
part C text: i.MX6Q - CONTROL
part D text: i.MX6Q - DISP; CSI
part E text: i.MX6Q - POWER
part F text: i.MX6Q - SATA
part G text: i.MX6Q - USB
part H text: i.MX6Q - LVDS
part I text: i.MX6Q - HDMI
part J text: i.MX6Q - DDR
part K text: i.MX6Q - RGMII
part L text: i.MX6Q - PCIe